# EAGLE library part MAT12 (library SMD)
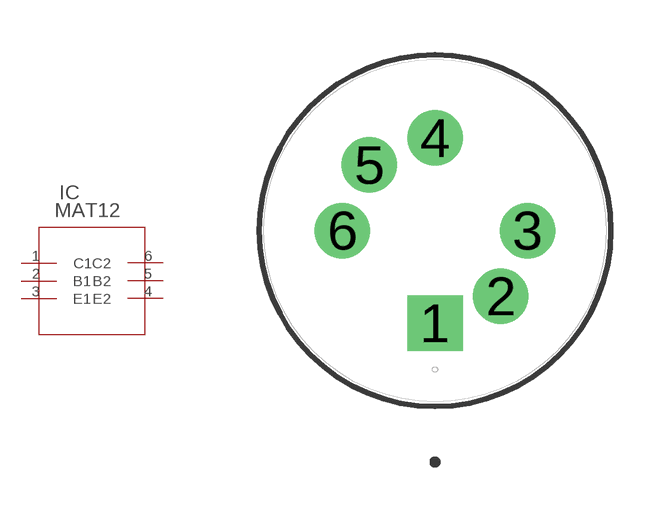
[diagram p8: symbol with the pads of H_6; footprint H_6]

Designator prefix IC

## MAT12 (MANUFACTURER_PART_NUMBER: MAT12AHZ; VENDOR: Analog Devices Inc)  [H_6]
1  C1  pas
2  B1  pas
3  E1  pas
4  E2  pas
5  B2  pas
6  C2  pas

## Footprint H_6 (pad centres in mm)
drill 0.787 pad 1.524 square: 1 0,-5.08
drill 0.787 pad 1.524: 2 1.803,-4.343; 3 2.54,-2.54; 4 0,0; 5 -1.803,-0.737; 6 -2.54,-2.54